# Altium schematic symbol library 3-644456-3.SchLib: 1 symbol
Pins are listed as number, name and electrical type; pins without a type are passive.

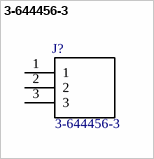
[diagram p0: symbol 3-644456-3]

## 3-644456-3
designator J?
Value: *
footprint *TE_3-644456-3
pins: 1, 2, 3